# Altium schematic symbol library PJQ44607AP-AU.Schlib: 1 symbol
Pins are listed as number, name and electrical type; pins without a type are passive.

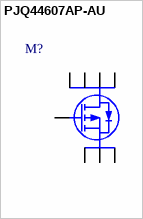
[diagram p0: symbol PJQ44607AP-AU]

## PJQ44607AP-AU
designator M?
60V 25A P-Channel
pins: 1 S, 2 S, 3 S, 4 G, 5 D, 6 D, 7 D, 8 D